# Altium footprint library ICs.PcbLib: 109 footprints (part 7 of 7)
Each footprint in its own frame and in the unit in brackets; x right, y up, seen from the top. Pads: shape width x height; smd on the part's side, far side on the other; paste and mask are expansions set on the pad; w line width, h text height; cw(c..) or ccw(c..) is an arc to the next point about the centre after c.
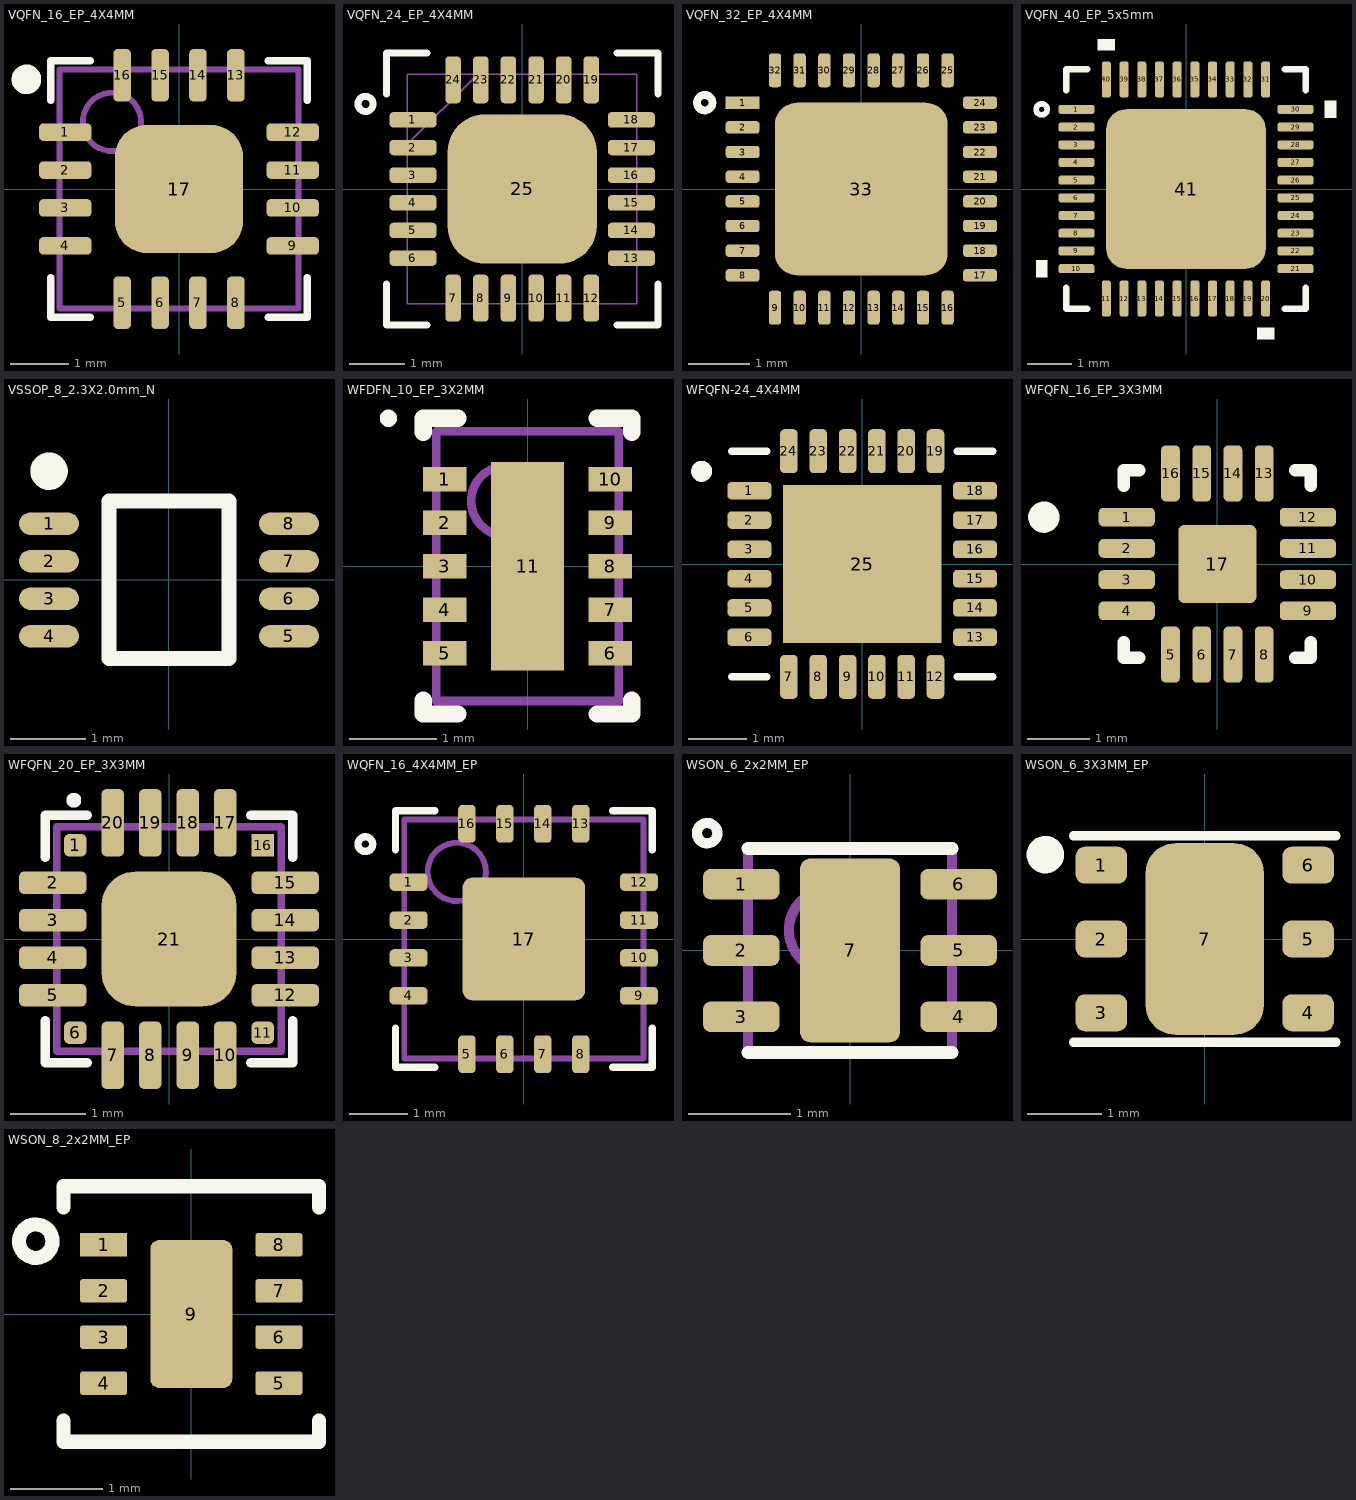
[diagram p6: the footprints below, top view; thin cyan lines are the x and y axes]

## VQFN_16_EP_4X4MM [mm] "16-VQFN EP / 20210809 / N-A.Potosi"
pads (17):
  rrect50% 0.9x0.3 smd: 1(-1.95,0.975) 2(-1.95,0.325) 3(-1.95,-0.325) 4(-1.95,-0.975) 9(1.95,-0.975) 10(1.95,-0.325) 11(1.95,0.325) 12(1.95,0.975)
  rrect50% 0.3x0.9 smd: 5(-0.975,-1.95) 6(-0.325,-1.95) 7(0.325,-1.95) 8(0.975,-1.95) 13(0.975,1.95) 14(0.325,1.95) 15(-0.325,1.95) 16(-0.975,1.95)
  rrect50% 2.2x2.2 smd: 17(0,0)
Top Overlay:
  circle w0.254: c-2.616,1.88 r0.127
  lines w0.127: -2.2,-1.525 -2.2,-2.2 -1.525,-2.2 ; -2.2,1.525 -2.2,2.2 -1.525,2.2 ; 1.525,-2.2 2.2,-2.2 2.2,-1.525 ; 1.525,2.2 2.2,2.2 2.2,1.525
Mechanical 1:
  circle w0.1: c-1.15,1.15 r0.5
  lines w0.1: -2.05,-2.05 2.05,-2.05 2.05,2.05 -2.05,2.05 -2.05,-2.05
3D body: height 1, standoff 0, extent -2.05,-2.05 2.05,2.05

## VQFN_24_EP_4X4MM [mm] "24-WFQFN EP / 20230809 / N-A.Potosi"
pads (25):
  rrect50% 0.85x0.28 smd: 1(-1.975,1.25) 2(-1.975,0.75) 3(-1.975,0.25) 4(-1.975,-0.25) 5(-1.975,-0.75) 6(-1.975,-1.25) 13(1.975,-1.25) 14(1.975,-0.75) 15(1.975,-0.25) 16(1.975,0.25) 17(1.975,0.75) 18(1.975,1.25)
  rrect50% 0.28x0.85 smd: 7(-1.25,-1.975) 8(-0.75,-1.975) 9(-0.25,-1.975) 10(0.25,-1.975) 11(0.75,-1.975) 12(1.25,-1.975) 19(1.25,1.975) 20(0.75,1.975) 21(0.25,1.975) 22(-0.25,1.975) 23(-0.75,1.975) 24(-1.25,1.975)
  rrect50% 2.7x2.7 smd: 25(0,0)
Top Overlay:
  circle w0.127: c-2.833,1.538 r0.137
  lines w0.127: -2.456,-1.718 -2.456,-2.456 -1.718,-2.456 ; -2.456,1.718 -2.456,2.456 -1.718,2.456 ; 1.718,-2.456 2.456,-2.456 2.456,-1.718 ; 1.718,2.456 2.456,2.456 2.456,1.718
Mechanical 1:
  lines w0.025: -2.075,0.805 -0.805,2.075 ; -2.075,-2.075 2.075,-2.075 2.075,2.075 -2.075,2.075 -2.075,-2.075
3D body "User Library-VQFN-24.step": height 1.06, standoff -0.01, extent -2.052,-2.057 2.048,2.043

## VQFN_32_EP_4X4MM [mm] "/20230725/J-A.Sepulveda"
pads (33):
  rect 0.55x0.2 smd: 1(-1.925,1.4)
  rrect50% 0.55x0.2 smd: 2(-1.925,1) 3(-1.925,0.6) 4(-1.925,0.2) 5(-1.925,-0.2) 6(-1.925,-0.6) 7(-1.925,-1) 8(-1.925,-1.4) 17(1.925,-1.4) 18(1.925,-1) 19(1.925,-0.6) 20(1.925,-0.2) 21(1.925,0.2) 22(1.925,0.6) 23(1.925,1) 24(1.925,1.4)
  rrect50% 0.2x0.55 smd: 9(-1.4,-1.925) 10(-1,-1.925) 11(-0.6,-1.925) 12(-0.2,-1.925) 13(0.2,-1.925) 14(0.6,-1.925) 15(1,-1.925) 16(1.4,-1.925) 25(1.4,1.925) 26(1,1.925) 27(0.6,1.925) 28(0.2,1.925) 29(-0.2,1.925) 30(-0.6,1.925) 31(-1,1.925) 32(-1.4,1.925)
  rrect25% 2.8x2.8 smd: 33(0,0)
Top Overlay:
  circle w0.127: c-2.54,1.4 r0.125
3D body "RSM0032B.stp": height 1, standoff 0, extent -2,-2 2,2

## VQFN_40_EP_5x5mm [mil] "/20230727/J-A.Sepulveda"
pads (41):
  rrect50% 32x8 smd: 1(-97.5,70.87) 2(-97.5,55.12) 3(-97.5,39.37) 4(-97.5,23.62) 5(-97.5,7.87) 6(-97.5,-7.87) 7(-97.5,-23.62) 8(-97.5,-39.37) 9(-97.5,-55.12) 10(-97.5,-70.87) 21(97.5,-70.87) 22(97.5,-55.12) 23(97.5,-39.37) 24(97.5,-23.62) 25(97.5,-7.87) 26(97.5,7.87) 27(97.5,23.62) 28(97.5,39.37) 29(97.5,55.12) 30(97.5,70.87)
  rrect50% 8x32 smd: 11(-70.87,-97.5) 12(-55.12,-97.5) 13(-39.37,-97.5) 14(-23.62,-97.5) 15(-7.87,-97.5) 16(7.87,-97.5) 17(23.62,-97.5) 18(39.37,-97.5) 19(55.12,-97.5) 20(70.87,-97.5) 31(70.87,97.5) 32(55.12,97.5) 33(39.37,97.5) 34(23.62,97.5) 35(7.87,97.5) 36(-7.87,97.5) 37(-23.62,97.5) 38(-39.37,97.5) 39(-55.12,97.5) 40(-70.87,97.5)
  rrect25% 142x142 smd: 41(0,0)
Top Overlay:
  circle w5: c-128.5,70.87 r4.92
  region: -63.37,123.5 -78.37,123.5 -78.37,133.5 -63.37,133.5
  region: 123.5,78.37 133.5,78.37 133.5,63.37 123.5,63.37
  region: 78.37,-123.5 63.37,-123.5 63.37,-133.5 78.37,-133.5
  region: -123.5,-63.37 -133.5,-63.37 -133.5,-78.37 -123.5,-78.37
  lines w6: -106.5,-87.97 -106.5,-106.5 -87.97,-106.5 ; -106.5,87.97 -106.5,106.5 -87.97,106.5 ; 87.97,-106.5 106.5,-106.5 106.5,-87.97 ; 87.97,106.5 106.5,106.5 106.5,87.97
3D body "VQFN40-RKP_TEX.step": height 39.09, standoff 0, extent -101.5,-101.5 101.5,101.5

## VSSOP_8_2.3X2.0mm_N [mm] "US8 / 20190912/ C-D Viveros"
pads (8):
  oval 0.8x0.3 smd: 1(-1.6,0.75) 2(-1.6,0.25) 3(-1.6,-0.25) 4(-1.6,-0.75) 5(1.6,-0.75) 6(1.6,-0.25) 7(1.6,0.25) 8(1.6,0.75)
Top Overlay:
  circle w0.25: c-1.6,1.45 r0.125
  lines w0.2: -0.8,-1.05 -0.8,1.05 0.8,1.05 0.8,-1.05 -0.8,-1.05
3D body "DCU0008A.stp": height 0.9, standoff 0, extent -1.561,-1 1.561,1

## WFDFN_10_EP_3X2MM [mm] "10-WSON / 20210809 /C-D Viveros"
pads (11):
  rect 0.5x0.28 smd paste-14 mask+0.07: 1(-0.95,1) 2(-0.95,0.5) 3(-0.95,0) 4(-0.95,-0.5) 5(-0.95,-1) 6(0.95,-1) 7(0.95,-0.5) 8(0.95,0) 9(0.95,0.5) 10(0.95,1)
  rect 0.84x2.4 smd paste-0.42 mask+0.07: 11(0,0)
Top Overlay:
  circle w0.1: c-1.6,1.7 r0.05
  lines w0.2: -1.2,-1.54 -1.2,-1.7 -0.8,-1.7 ; -1.2,1.54 -1.2,1.7 -0.8,1.7 ; 0.8,-1.7 1.2,-1.7 1.2,-1.54 ; 0.8,1.7 1.2,1.7 1.2,1.54
Top Paste:
  rectangle: 0.7,0.875 1.2,1.125
  rectangle: 0.7,0.375 1.2,0.625
  rectangle: 0.7,-0.125 1.2,0.125
  rectangle: 0.7,-0.625 1.2,-0.375
  rectangle: 0.7,-1.125 1.2,-0.875
  rectangle: -1.2,-1.125 -0.7,-0.875
  rectangle: -1.2,-0.625 -0.7,-0.375
  rectangle: -1.2,0.875 -0.7,1.125
  rectangle: -1.2,0.375 -0.7,0.625
  region: 0.32,1.1 -0.32,1.1 -0.32,0.5 0.32,0.5
  rectangle: -0.32,-0.3 0.32,0.3
  rectangle: -0.32,-1.1 0.32,-0.5
  rectangle: -1.2,-0.125 -0.7,0.125
Mechanical 13:
  circle w0.1: c-0.25,0.75 r0.4
  lines w0.1: -1.05,-1.55 1.05,-1.55 1.05,1.55 -1.05,1.55 -1.05,-1.55
3D body: height 0.8, standoff 0, extent -1.05,-1.55 1.05,1.55

## WFQFN-24_4X4MM [mm] "20220518 / E.Naranjo"
pads (25):
  rrect50% 0.75x0.3 smd: 1(-1.925,1.25) 2(-1.925,0.75) 3(-1.925,0.25) 4(-1.925,-0.25) 5(-1.925,-0.75) 6(-1.925,-1.25) 13(1.925,-1.25) 14(1.925,-0.75) 15(1.925,-0.25) 16(1.925,0.25) 17(1.925,0.75) 18(1.925,1.25)
  rrect50% 0.3x0.75 smd: 7(-1.25,-1.925) 8(-0.75,-1.925) 9(-0.25,-1.925) 10(0.25,-1.925) 11(0.75,-1.925) 12(1.25,-1.925) 19(1.25,1.925) 20(0.75,1.925) 21(0.25,1.925) 22(-0.25,1.925) 23(-0.75,1.925) 24(-1.25,1.925)
  rect 2.7x2.7 smd: 25(0,0)
Top Overlay:
  circle w0.2: c-2.739,1.581 r0.079
  lines w0.127: -2.225,-1.925 -1.625,-1.925 ; -2.225,1.925 -1.625,1.925 ; 1.625,-1.925 2.225,-1.925 ; 1.625,1.925 2.225,1.925
3D body "AP33771DKZ-13.stp": height 0.9, standoff 0, extent -2,-2 2,2

## WFQFN_16_EP_3X3MM [mm] "TQFN_16_3x3/20210809/V-A.Patino"
pads (17):
  rrect50% 0.9x0.3 smd: 1(-1.451,0.75) 2(-1.451,0.25) 3(-1.451,-0.25) 4(-1.451,-0.75) 9(1.451,-0.75) 10(1.451,-0.25) 11(1.451,0.25) 12(1.451,0.75)
  rrect50% 0.3x0.9 smd: 5(-0.75,-1.451) 6(-0.25,-1.451) 7(0.25,-1.451) 8(0.75,-1.451) 13(0.75,1.451) 14(0.25,1.451) 15(-0.25,1.451) 16(-0.75,1.451)
  rrect15% 1.25x1.25 smd: 17(0,0)
Top Overlay:
  circle w0.25: c-2.779,0.75 r0.125
  lines w0.2: -1.5,-1.25 -1.5,-1.5 -1.25,-1.5 ; -1.5,1.25 -1.5,1.5 -1.25,1.5 ; 1.25,-1.5 1.5,-1.5 1.5,-1.25 ; 1.25,1.5 1.5,1.5 1.5,1.25
3D body "IC_Maxim_Integrated_MAX98357AETE+_eec.STEP": height 0.8, standoff 0, extent -1.503,-1.503 1.5,1.503

## WFQFN_20_EP_3X3MM [mm] "QFN_20/ 20210809/ C-D Viveros"
pads (21):
  rrect50% 0.3x0.3 smd: 1(-1.25,1.25) 6(-1.25,-1.25) 11(1.25,-1.25)
  rrect50% 0.9x0.3 smd: 2(-1.55,0.75) 3(-1.55,0.25) 4(-1.55,-0.25) 5(-1.55,-0.75) 12(1.55,-0.75) 13(1.55,-0.25) 14(1.55,0.25) 15(1.55,0.75)
  rrect50% 0.3x0.9 smd: 7(-0.75,-1.55) 8(-0.25,-1.55) 9(0.25,-1.55) 10(0.75,-1.55) 17(0.75,1.55) 18(0.25,1.55) 19(-0.25,1.55) 20(-0.75,1.55)
  rect 0.3x0.3 smd: 16(1.25,1.25)
  rrect50% 1.8x1.8 smd: 21(0,0)
Top Overlay:
  circle w0.1: c-1.27,1.85 r0.05
  lines w0.127: -1.65,-1.092 -1.65,-1.65 -1.092,-1.65 ; -1.65,1.092 -1.65,1.65 -1.092,1.65 ; 1.092,-1.65 1.65,-1.65 1.65,-1.092 ; 1.092,1.65 1.65,1.65 1.65,1.092
Mechanical 1:
  lines w0.1: -1.5,-1.5 -1.5,1.5 1.5,1.5 1.5,-1.5 -1.5,-1.5
3D body: height 0.8, standoff 0, extent -1.5,-1.5 1.5,1.5

## WQFN_16_4X4MM_EP [mm] "16-QFN/20190329/J-P.Vargas.A"
pads (17):
  rrect50% 0.65x0.3 smd: 1(-1.975,0.975) 2(-1.975,0.325) 3(-1.975,-0.325) 4(-1.975,-0.975) 9(1.975,-0.975) 10(1.975,-0.325) 11(1.975,0.325) 12(1.975,0.975)
  rrect50% 0.3x0.65 smd: 5(-0.975,-1.975) 6(-0.325,-1.975) 7(0.325,-1.975) 8(0.975,-1.975) 13(0.975,1.975) 14(0.325,1.975) 15(-0.325,1.975) 16(-0.975,1.975)
  rrect15% 2.1x2.1 smd: 17(0,0)
Top Overlay:
  circle w0.127: c-2.718,1.626 r0.125
  lines w0.127: -2.2,-1.525 -2.2,-2.2 -1.525,-2.2 ; 1.525,-2.2 2.2,-2.2 2.2,-1.525 ; 1.525,2.2 2.2,2.2 2.2,1.525 ; -2.2,2.2 -2.2,1.525 -2.2,2.2 ; -2.2,2.2 -1.525,2.2 -2.2,2.2
Top Paste:
  rectangle: -0.95,-0.95 0.95,0.95
Mechanical 1:
  circle w0.1: c-1.15,1.15 r0.5
  lines w0.1: -2.05,-2.05 -2.05,2.05 2.05,2.05 2.05,-2.05 -2.05,-2.05
3D body: height 0.8, standoff 0, extent -2.05,-2.05 2.05,2.05

## WSON_6_2x2MM_EP [mm] "WDFN-6 , SON-6 / 20200724 / N-A.Potosi"
height 0.8
pads (7):
  rrect50% 0.75x0.3 smd: 1(-1.065,0.65) 2(-1.065,0) 3(-1.065,-0.65) 4(1.065,-0.65) 5(1.065,0) 6(1.065,0.65)
  rrect20% 0.98x1.8 smd: 7(0,0)
Top Overlay:
  circle w0.1: c-1.4,1.15 r0.1
  lines w0.127: -1,-1 1,-1 ; -1,1 1,1
Mechanical 1:
  circle w0.1: c-0.2,0.2 r0.4
  lines w0.1: -1,-1 1,-1 1,1 -1,1 -1,-1
3D body: height 0.8, standoff 0.05, extent -1,-1 1,1

## WSON_6_3X3MM_EP [mm] "WDFN-6 / 20201125 / C-D Viveros"
pads (7):
  rrect50% 0.7x0.5 smd: 1(-1.4,1) 2(-1.4,0) 3(-1.4,-1) 4(1.4,-1) 5(1.4,0) 6(1.4,1)
  rrect50% 1.6x2.6 smd: 7(0,0)
Top Overlay:
  circle w0.254: c-2.159,1.143 r0.127
  lines w0.127: -1.778,-1.397 1.778,-1.397 ; -1.778,1.397 1.778,1.397
3D body "User Library-DMB0006A.STEP": height 0.8, standoff 0, extent -1.5,-1.5 1.5,1.5

## WSON_8_2x2MM_EP [mil] "8-WFDFN_EP/20220531/V-A.Patino"
pads (9):
  rect 20x10 smd mask+3: 1(-37.4,29.53)
  rrect20% 20x10 smd mask+3: 2(-37.4,9.84) 3(-37.4,-9.84) 4(-37.4,-29.53) 5(37.4,-29.53) 6(37.4,-9.84) 7(37.4,9.84) 8(37.4,29.53)
  rrect20% 35x63 smd: 9(0,0)
Top Overlay:
  circle w6: c-66.36,31.07 r7.14
  lines w6: -54.5,-45.54 -54.5,-54.5 54.5,-54.5 54.5,-45.54 ; -54.5,45.54 -54.5,54.5 54.5,54.5 54.5,45.54
3D body "DSG0008A.stp": height 30.51, standoff 0, extent -39.36,-39.36 39.38,39.38